# Altium schematic symbol library CONN PWR JACK.SchLib: 1 symbol
Pins are listed as number, name and electrical type; pins without a type are passive.

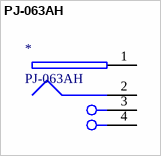
[diagram p0: symbol PJ-063AH]

## PJ-063AH
designator *
CONN PWR JACK 2X5.5MM SOLDER; Manufacturer: CUI; Gender: Male; Shielding: Shielded; Current Rating: 8A; Insulation Resistance: 100MR; Voltage Rating: 24V; Number of Conductors: 2; Supplier 1: Digi-Key; Manufacturer Part Number: PJ-063AH; RoHS: Yes; Category: Connectors; Stock 1: 53074; Pricing 1: 1=1.36000, 10=1.19600, 25=1.12560, 50=1.07880, 100=1.03180, 250=0.93800, 500=0.84420, 1000=0.75040, 2500=0.68005 (USD); Mount: Through Hole; Contact Material: Copper; Contact Plating: Nickel; Housing Material: Thermoplastic; Housing Color: Black; Min Operating Temperature: -25°C; Max Operating Temperature: 85°C; Package Quantity: 500; Termination: Through Hole; Connector Type: Jack; Contact Gender: Male; Orientation: Horizontal; Series: -; Flammability Rating: UL94 V-0; RoHS Compliant: Yes; Lead Free: Lead Free; ComponentLink1URL: https://www.cui.com/product/resource/digikeypdf/pj-063ah.pdf?src-supplier=Arrow+Electronics; ComponentLink1Description: https://www.cui.com/product/resource/digikeypdf/pj-063ah.pdf?src-supplier=Arrow+Electronics; ComponentLink2URL: http://www.cui.com/Product/Resource/FuturePDF/PJ-063AH.pdf?src-supplier=Future+Electronics; ComponentLink2Description: http://www.cui.com/Product/Resource/FuturePDF/PJ-063AH.pdf?src-supplier=Future+Electronics; ComponentLink3URL: https://www.cui.com/product/resource/digikeypdf/pj-063ah.pdf?src-supplier=Digi-Key; ComponentLink3Description: https://www.cui.com/product/resource/digikeypdf/pj-063ah.pdf?src-supplier=Digi-Key; ComponentLink4URL: https://www.cui.com/product/resource/digikeypdf/pj-063ah.pdf?src-supplier=Verical; ComponentLink4Description: https://www.cui.com/product/resource/digikeypdf/pj-063ah.pdf?src-supplier=Verical; ComponentLink5URL: https://www.cui.com/product/resource/digikeypdf/pj-063ah.pdf?src-supplier=Mouser; ComponentLink5Description: https://www.cui.com/product/resource/digikeypdf/pj-063ah.pdf?src-supplier=Mouser; ComponentLink6URL: https://www.cui.com/product/resource/digikeypdf/pj-063ah.pdf?src-supplier=Onlinecomponents.com; ComponentLink6Description: https://www.cui.com/product/resource/digikeypdf/pj-063ah.pdf?src-supplier=Onlinecomponents.com; ComponentLink7URL: https://www.cui.com/product/resource/digikeypdf/pj-063ah.pdf?src-supplier=NAC+Semi; ComponentLink7Description: https://www.cui.com/product/resource/digikeypdf/pj-063ah.pdf?src-supplier=NAC+Semi; ComponentLink8URL: https://www.cui.com/product/resource/digikeypdf/pj-063ah.pdf?src-supplier=Quest; ComponentLink8Description: https://www.cui.com/product/resource/digikeypdf/pj-063ah.pdf?src-supplier=Quest; Supplier Part Number 1: CP-063AH-ND
footprint CUI-PJ-063AH_V (THD, 2-Leads, Body 13x10mm, Height 9mm)
pins: 1, 2, 3 SHLD, 4 SHLD